# Altium footprint library FootPrintLib_5.PCBLIB: 254 footprints (part 3 of 16)
Each footprint in its own frame and in the unit in brackets; x right, y up, seen from the top. Pads: shape width x height; smd on the part's side, far side on the other; paste and mask are expansions set on the pad; w line width, h text height; cw(c..) or ccw(c..) is an arc to the next point about the centre after c.
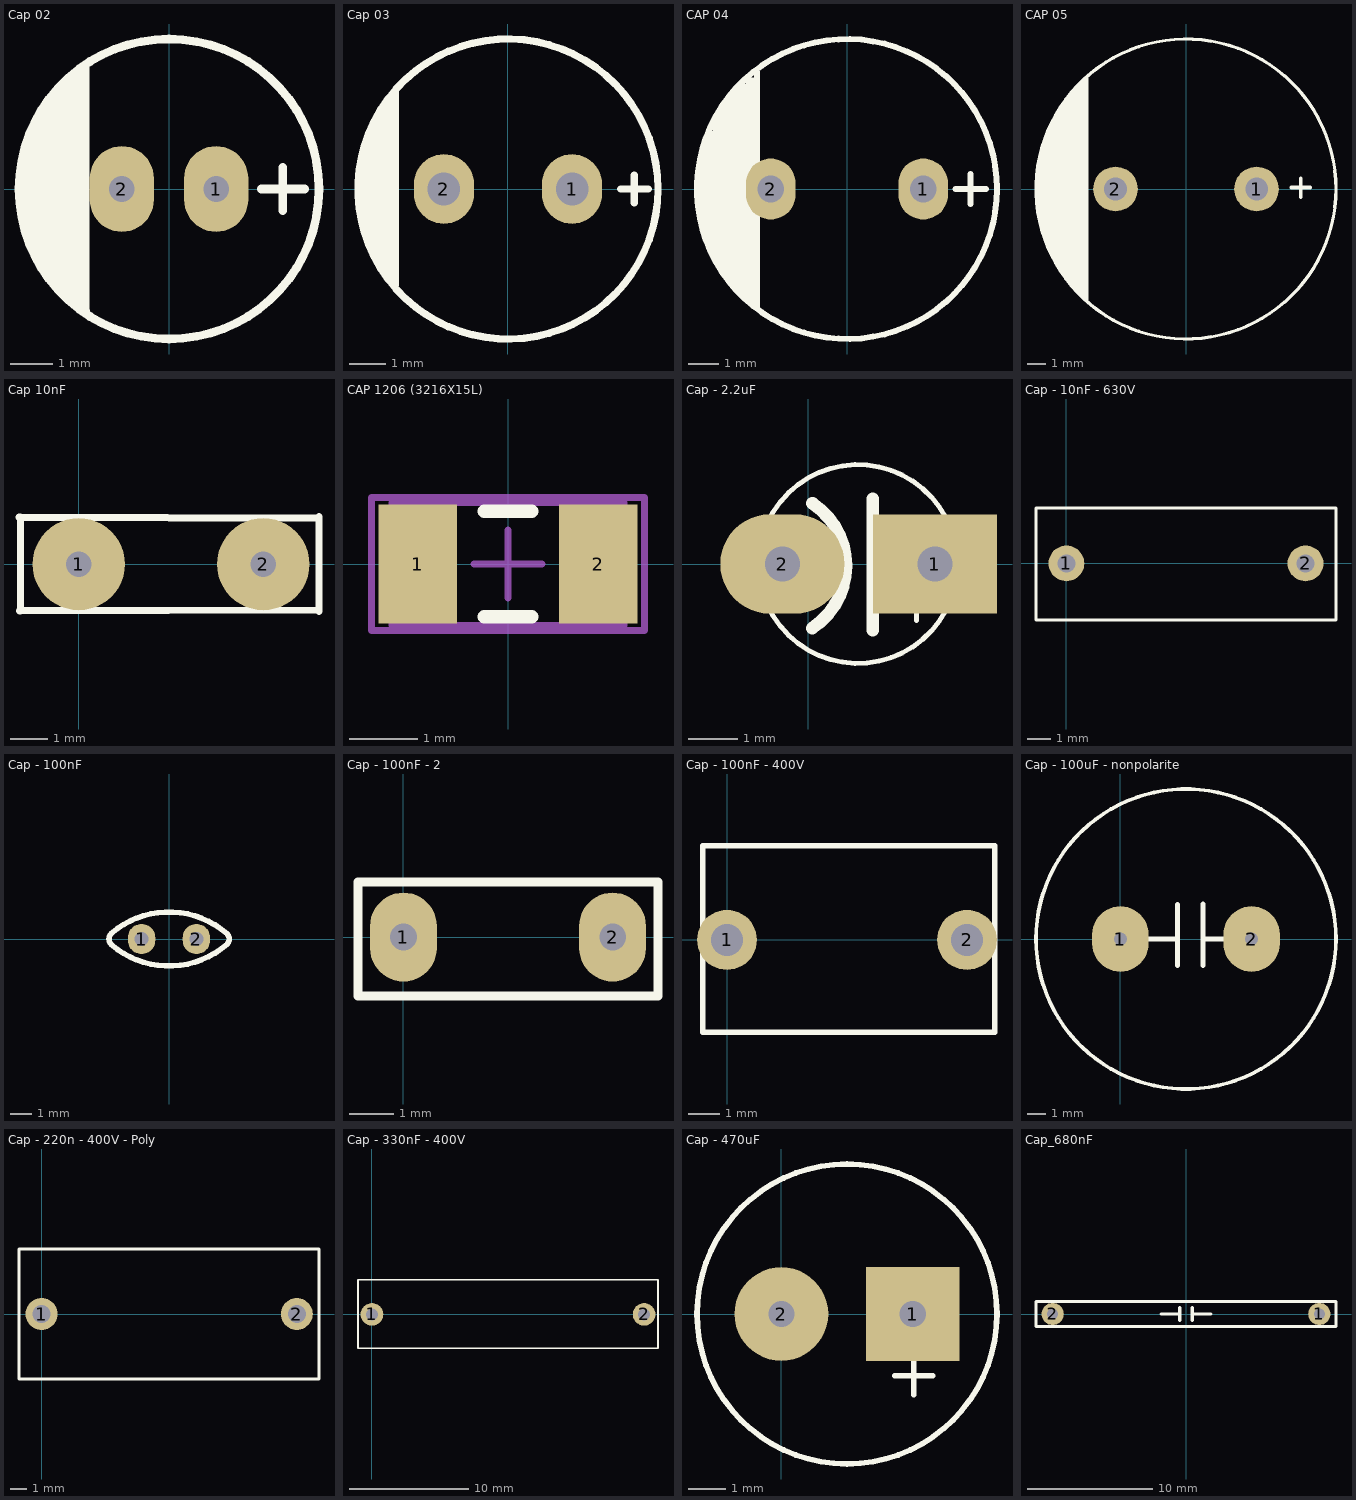
[diagram p2: the footprints below, top view; thin cyan lines are the x and y axes]

## Cap 02 [mm]
pads (2):
  oval 1.5x2 hole 0.6: 1(1.1,0) 2(-1.1,0)
Top Overlay:
  circle w0.2: c0,0 r3.5
  lines w0.2: -3.34,-1.02 -3.34,0.96 ; -3.17,-1.45 -3.17,1.47 ; -3,1.8 -3,-1.79 -2.99,-1.8 ; 2.15,0 3.166,0 ; 2.658,-0.508 2.658,0.508
  lines w0.254: -2.81,-2.01 -2.81,2.03 ; -2.59,-2.29 -2.59,2.3 -2.58,2.31 ; -2.37,-2.51 -2.37,2.52 -2.36,2.53 ; -2.2,-2.67 -2.2,2.59 ; -1.98,2.84 -1.98,-2.84 -1.97,-2.85 ; -2.81,2.03 -2.81,2.03

## Cap 03 [mil]
pads (2):
  oval 65x75 hole 35: 1(68.9,0) 2(-68.9,0)
Top Overlay:
  circle w7.87: c0,0 r161.42
  lines w7.87: -153.66,-42.13 -153.66,43.7 ; 121,0 151,0 ; 136,-15 136,15
  lines w10: -146.18,-64.17 -146.18,63.78 ; -137.52,-81.89 -137.52,81.5 ; -128.86,-94.88 -128.86,95.28 ; -122.17,-103.15 -122.17,103.94
3D body "SW3dPS-Cap electro 8x11.5x3.5mm_V2008.STEP": height 473.44, standoff -136.91, extent -159.48,-159 157.48,157.96

## CAP 04 [mil]
pads (2):
  oval 65x80 hole 35: 1(100,0) 2(-100,0)
Top Overlay:
  circle w7.87: c0,0 r196.85
  rectangle: -177.83,-74.62 -117.98,71.44
  lines w7.87: -190.91,-47 -190.91,46 ; -183.91,-63 -183.91,62 ; -177.83,-74.62 -177.83,71.44 ; -177.83,73.02 -117.98,73.02 ; -175.07,-77.77 -117.98,-77.77 ; -174.68,80.5 -117.98,80.5 ; -173.89,-84.86 -117.98,-84.86 ; -171.53,87.19 -117.98,87.19 ; -170.35,-91.94 -117.98,-91.94 ; -167.98,93.88 -117.98,93.88 ; -166.8,-98.64 -117.98,-98.64 ; -164.05,100.57 -117.98,100.57 ; -163.26,-105.33 -117.98,-105.72 ; -159.72,107.66 -117.98,107.66 ; -158.14,-112.42 -117.98,-112.42 ; -155.39,114.35 -117.98,114.35 ; -152.63,-119.9 -117.98,-119.9 ; -150.27,121.05 -117.98,121.05 ; -147.12,-127.38 -117.98,-127.38 ; -144.76,127.35 -144.36,127.74 -117.98,127.74 ; -140.82,-134.46 -117.98,-134.46 ; -138.46,134.43 -138.06,134.83 -117.98,134.83 ; -134.13,-141.16 -117.98,-141.16 ; -130.98,142.31 -117.98,142.31 ; -127.83,-146.67 -117.98,-146.67 ; -117.98,-155.72 -117.98,153.72 ; 142.13,0 182.13,0 ; 162.13,-20 162.13,20
3D body "SW3dPS-Cap electro 10x12.5x5.0mm.STEP": height 512.81, standoff -136.91, extent -197.7,-197 198,198.7

## CAP 05 [mil]
pads (2):
  round 95 hole 48: 1(150,0) 2(-150,0)
Top Overlay:
  circle w7: c0,0 r318.9
  region: -211,-238 -211,235 -241,210 -273,164 -302,100 -315,50 -319,-2 -309,-79 -286,-141 -249,-200
  lines w7.87: -211,-238 -211,235 ; 224,3 264,3 ; 244,-17 244,23
3D body "SW3dPS-Cap electro 16.2x16x7.62mm_V2008.STEP": height 650.61, standoff -147.28, extent -320,-320 319.8,319.8

## Cap 10nF [mm]
pads (2):
  round 2.5 hole 0.7: 1(0,0) 2(5,0)
Top Overlay:
  lines w0.2: -1.62,1.27 6.47,1.24 ; -1.6,-1.26 6.51,-1.24 ; -1.58,-1.26 -1.58,1.27 ; 6.51,-1.28 6.51,1.29

## CAP 1206 (3216X15L) [mm] "Chip Capacitor, 2-Leads, Body 3.2x1.6mm, IPC High Density"
height 1.52
pads (2):
  rect 1.15x1.75 smd: 1(-1.325,0) 2(1.325,0)
Top Overlay:
  lines w0.2: -0.35,-0.775 0.35,-0.775 ; -0.35,0.775 0.35,0.775
Mechanical 13:
  lines w0.1: -1.7,-0.9 1.7,-0.9 1.7,0.9 -1.7,0.9 -1.7,-0.9
Mechanical 15:
  lines w0.1: -0.5,0 0.5,0 ; 0,-0.5 0,0.5 ; -2,-0.975 2,-0.975 2,0.975 -2,0.975 -2,-0.975
3D body "1206 cap.STEP": height 1, standoff 0, extent -1.6,-0.8 1.6,0.8

## Cap - 2.2uF [mm]
pads (2):
  rect 2.5x2 hole 0.7: 1(2.55,0)
  oval 2.5x2 hole 0.7: 2(-0.52,0)
Top Overlay:
  circle w0.1: c1,0 r2
  lines w0.1: 1.654,-0.72 2.67,-0.72 ; 2.18,-1.14 2.18,-0.29
  lines w0.254: -0.7,0 0.65,0 ; 0.08,-1.29 ccw(c-0.738,-0.033) 0.088,1.22 ; 1.3,-1.33 1.3,1.31 ; 1.38,0 2.72,0

## Cap - 10nF - 630V [mil]
pads (2):
  round 60 hole 30: 1(0,0) 2(400,0)
Top Overlay:
  lines w5: -50.97,-94.52 -50.97,92.52 451,92.52 451,-94.52 -50.97,-94.52
3D body "Cap 10n - 630V Poly_2009.STEP": height 480, standoff -68.11, extent -50.97,-94.52 451,92.52

## Cap - 100nF [mil]
pads (2):
  oval 50x55 hole 25: 1(-50,0) 2(50,0)
Top Overlay:
  lines w10: -105.81,-9.79 ccw(c0,112.17) 106.05,-9.58 ; -105.81,9.79 cw(c0,-112.17) 106.05,9.58 ; -105.58,-9.52 cw(c-96.06,0) -105.58,9.52 ; 106,-9.52 ccw(c96.48,0) 106,9.52
3D body "Cap 100n.STEP": height 272.48, standoff -39.37, extent -114.93,-34 114.93,32.79

## Cap - 100nF - 2 [mm]
height 5
pads (2):
  oval 1.5x2 hole 0.6: 1(0,0) 2(4.7,0)
Top Overlay:
  lines w0.2: -1.021,-1.328 5.72,-1.328 5.72,1.242 -1.021,1.242 -1.021,-1.328
3D body "cap.STEP": height 6.84, standoff -1.46, extent -0.75,-1.2 5.55,1.2

## Cap - 100nF - 400V [mil]
pads (2):
  round 75 hole 40: 1(0,0) 2(300,0)
Top Overlay:
  lines w7: -30.5,-115.39 334.5,-115.39 334.5,117.65 -30.5,117.65 -30.5,-115.39
3D body "Cap 100n - 400V Poly.STEP": height 460, standoff -88.11, extent -30.5,-115.39 334.5,117.65

## Cap - 100uF - nonpolarite [mm]
pads (2):
  oval 3x3.5 hole 0.7: 1(0,0) 2(7,0)
Top Overlay:
  circle w0.2: c3.5,0 r8
  lines w0.254: 0,0 1.87,0 3.04,0 3.05,-0.01 ; 3.05,-1.43 3.05,1.84 ; 4.41,-1.43 4.41,1.86 4.41,0.1 4.51,0 7,0

## Cap - 220n - 400V - Poly [mil]
pads (2):
  round 75 hole 42: 1(0,0) 2(600,0)
Top Overlay:
  lines w7: -53,-152.52 652,-152.52 652,152.52 -53,152.52 -53,-152.52
3D body "Cap 220n - 400V Poly.STEP": height 508.74, standoff -39.37, extent -53,-152.52 652,152.52

## Cap - 330nF - 400V [mil]
pads (2):
  round 75 hole 40: 1(0,0) 2(900,0)
Top Overlay:
  lines w5: -46.26,-112.21 -46.26,114.21 945.87,114.21 945.87,-112.21 -46.26,-112.21
3D body "Cap 330n - 400V Poly_2009.STEP": height 430, standoff -118.11, extent -18.04,-112.21 917,114.21

## Cap - 470uF [mm]
pads (2):
  rect 2.5x2.5 hole 0.7: 1(3.5,0)
  round 2.5 hole 0.7: 2(0,0)
Top Overlay:
  circle w0.15: c1.75,0 r4
  lines w0.15: 3.022,-1.65 4.038,-1.65 ; 3.53,-2.158 3.53,-1.142

## Cap_680nF [mil]
height 393.7
pads (2):
  round 70 hole 35: 1(420,0) 2(-420,0)
Top Overlay:
  lines w10: -78.74,0 -19.68,0 ; -19.68,-19.68 -19.68,19.68 ; 19.68,-19.68 19.68,19.68 ; 19.68,0 78.74,0 ; -472.44,-39.37 472.44,-39.37 472.44,39.37 -472.44,39.37 -472.44,-39.37
3D body "680nF.STEP": height 497.8, standoff -33.7, extent -472.13,-13.39 472.76,683.32